# EAGLE library part MC33970 (library MC33970)
Dual Gauge Stepper Motor Driver Integrated Circuit with Improved Damping Algorithms
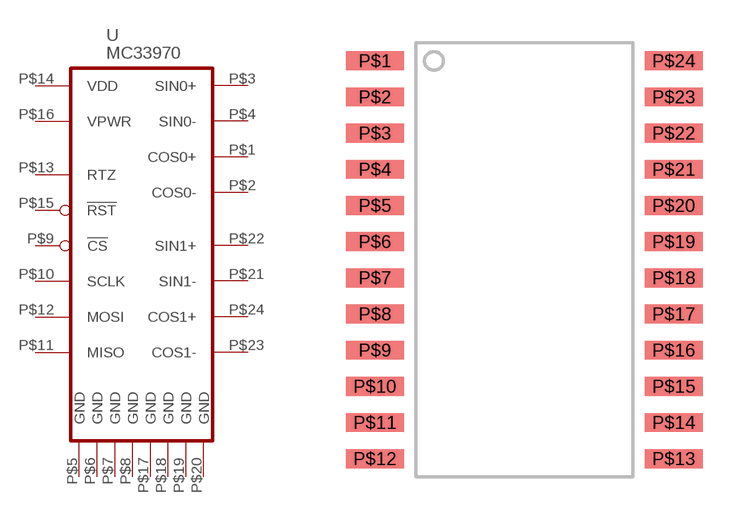
[diagram p0: symbol with the pads of SOIC24; footprint SOIC24]

Designator prefix -

## MC33970  [SOIC24]
P$1  COS0+  out
P$2  COS0-  out
P$3  SIN0+  out
P$4  SIN0-  out
P$5  GND  pwr
P$6  GND  pwr
P$7  GND  pwr
P$8  GND  pwr
P$9  !CS  in
P$10  SCLK  in
P$11  MISO  out
P$12  MOSI  in
P$13  RTZ  out
P$14  VDD  pwr
P$15  !RST  in
P$16  VPWR  pwr
P$17  GND  pwr
P$18  GND  pwr
P$19  GND  pwr
P$20  GND  pwr
P$21  SIN1-  out
P$22  SIN1+  out
P$23  COS1-  out
P$24  COS1+  out

## Footprint SOIC24 (pad centres in mm)
Small Outline IC Wide(SOIC-24W)
smd 2.032 x 0.66: P$1 -5.295,6.565; P$2 -5.295,5.295; P$3 -5.295,4.025; P$4 -5.295,2.755; P$5 -5.295,1.485; P$6 -5.295,0.215; P$7 -5.295,-1.055; P$8 -5.295,-2.325; P$9 -5.295,-3.595; P$10 -5.295,-4.865; P$11 -5.295,-6.135; P$12 -5.295,-7.405; P$13 5.195,-7.405; P$14 5.195,-6.135; P$15 5.195,-4.865; P$16 5.195,-3.595; P$17 5.195,-2.325; P$18 5.195,-1.055; P$19 5.195,0.215; P$20 5.195,1.485; P$21 5.195,2.755; P$22 5.195,4.025; P$23 5.195,5.295; P$24 5.195,6.565